# Altium schematic symbol library IND,4.7uH,4A,Wirewound,Thru.Schlib: 1 symbol
Pins are listed as number, name and electrical type; pins without a type are passive.

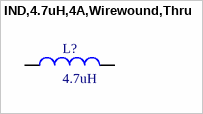
[diagram p0: symbol IND,4.7uH,4A,Wirewound,Thru]

## IND,4.7uH,4A,Wirewound,Thru
designator L?, comment 4.7uH
4.7 µH Unshielded Wirewound Inductor 4 A 22mOhm Max Radial, Vertical Cylinder
pins: 1, 2